# EAGLE library part NORDIC_2.4GHZ_WIRELESS (library scono)
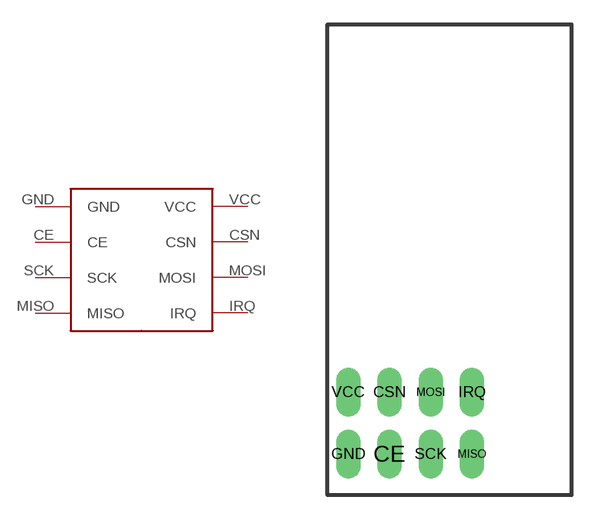
[diagram p8: symbol with the pads of NORDIC_2.4GHZ_WIRELESS; footprint NORDIC_2.4GHZ_WIRELESS]

Designator prefix -

## NORDIC_2.4GHZ_WIRELESS  [NORDIC_2.4GHZ_WIRELESS]
CE  CE
CSN  CSN
GND  GND
IRQ  IRQ
MISO  MISO
MOSI  MOSI
SCK  SCK
VCC  VCC

## Footprint NORDIC_2.4GHZ_WIRELESS (pad centres in mm)
drill 1 long: CE 3.81,2.54; CSN 3.81,6.35; GND 1.27,2.54; IRQ 8.89,6.35; MISO 8.89,2.54; MOSI 6.35,6.35; SCK 6.35,2.54; VCC 1.27,6.35